# Altium schematic symbol library CONN 043650-0409-MOLEX4Pin.SchLib: 1 symbol
Pins are listed as number, name and electrical type; pins without a type are passive.

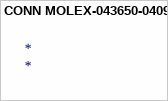
[diagram p0: symbol CONN MOLEX-043650-0409]

## CONN MOLEX-043650-0409
designator *